# EAGLE library part MICS-6 (library con-lumberg)
CONNECTOR
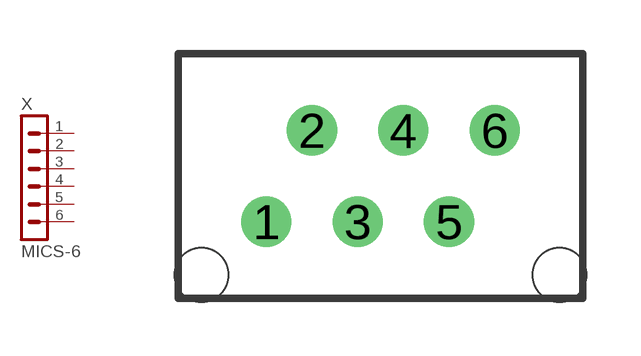
[diagram p0: symbol with the pads of MICS-6; footprint MICS-6]

Designator prefix X

## MICS-6 (OC_FARNELL: unknown; OC_NEWARK: unknown)  [MICS-6]
1  1  pas
2  2  pas
3  3  pas
4  4  pas
5  5  pas
6  6  pas

## Footprint MICS-6 (pad centres in mm)
CONNECTOR
drill 0.85 pad 1.397: 1 -3.175,-1.27; 2 -1.905,1.27; 3 -0.635,-1.27; 4 0.635,1.27; 5 1.905,-1.27; 6 3.175,1.27
hole 1.5 at 4.975,-2.75
hole 1.5 at -4.975,-2.75